# EAGLE library part NL27WZ17 (library dooba)
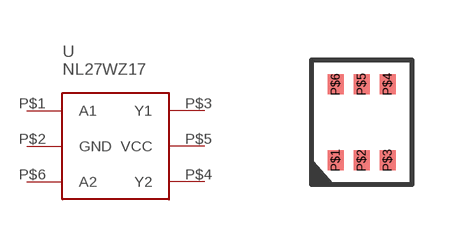
[diagram p13: symbol with the pads of SOT-363; footprint SOT-363]

Designator prefix U

## NL27WZ17SOT-363  [SOT-363]
P$1  A1
P$2  GND
P$3  Y1
P$4  Y2
P$5  VCC
P$6  A2

## Footprint SOT-363 (pad centres in mm)
smd 0.4 x 0.5: P$1 -0.65,-0.95; P$2 0,-0.95; P$3 0.65,-0.95; P$4 0.65,0.95; P$5 0,0.95; P$6 -0.65,0.95